# EAGLE library part BD80FD0WHFP-TR (library BD80FD0WHFP-TR)
LDO Voltage Regulator, Fixed, 2.5 to 32 V in, 0.4 V Dropout, 8 V/2 A out, HRP-5 Source: Datasheet <https://fscdn.rohm.com/en/products/databook/datasheet/ic/power/linear_regulator/bdxxfd0xxxx-e.pdf>
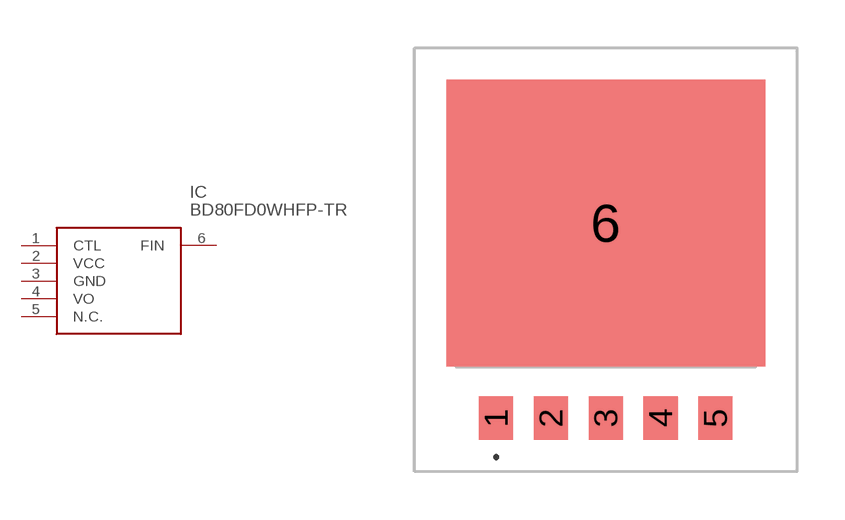
[diagram p0: symbol with the pads of BD80FD0WHFPTR; footprint BD80FD0WHFPTR]

Designator prefix IC

## BD80FD0WHFP-TR (Description: LDO Voltage Regulator, Fixed, 2.5 to 32 V in, 0.4 V Dropout, 8 V/2 A out, HRP-5; Height: 2.135mm; Manufacturer_Name: ROHM Semiconductor; Manufacturer_Part_Number: BD80FD0WHFP-TR; Mouser_Part_Number: 755-BD80FD0WHFP-TR; Mouser_Price-Stock: https://www.mouser.co.uk/ProductDetail/ROHM-Semiconductor/BD80FD0WHFP-TR?qs=%252BEew9%252B0nqrCidEQxdXcK7Q%3D%3D)  [BD80FD0WHFPTR]
1  CTL
2  VCC
3  GND
4  VO
5  N.C.  nc
6  FIN

## Footprint BD80FD0WHFPTR (pad centres in mm)
BD80FD0WHFP-TR-2
smd 1.07 x 1.37: 1 -3.44,-4.97; 2 -1.72,-4.97; 3 0,-4.97; 4 1.72,-4.97; 5 3.44,-4.97
smd 10 x 9: 6 0,1.155